# EAGLE library part MIC2182 (library MAX9812)
MICREL's MIC2182
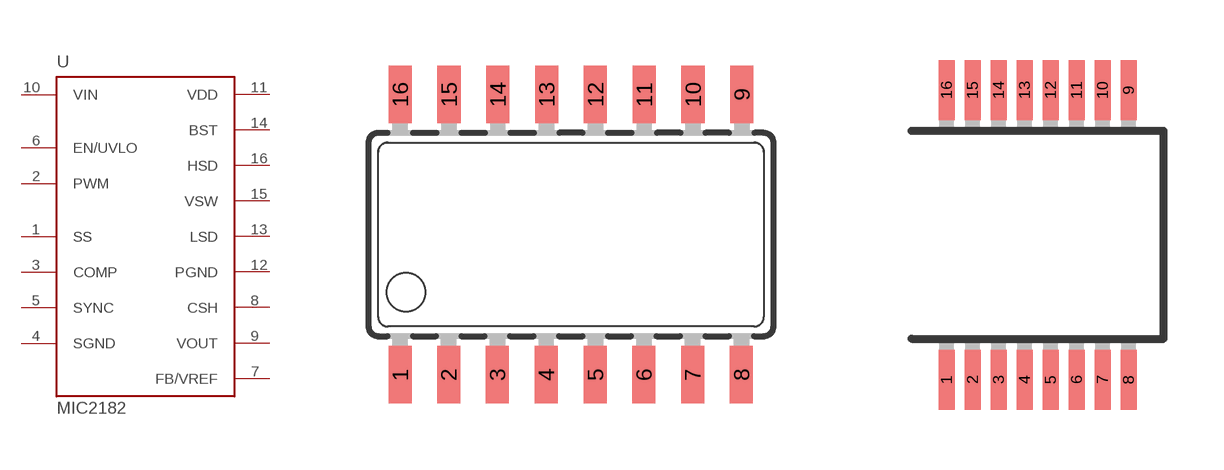
[diagram p61: symbol with the pads of SOP16; footprints SOP16, SSOP16]

Designator prefix U

## MIC2182SOP16  [SOP16]
1  SS  in
2  PWM  in
3  COMP  out
4  SGND  pwr
5  SYNC  in
6  EN/UVLO  in
7  FB/VREF
8  CSH  in
9  VOUT  in
10  VIN  pwr
11  VDD  out
12  PGND  pwr
13  LSD  out
14  BST  in
15  VSW  out
16  HSD  out

## MIC2182SSOP16  [SSOP16]
Pads as for SOP16

## Footprint SOP16 (pad centres in mm)
Small Outline Package
smd 0.6 x 1.5: 1 -4.445,-3.65; 2 -3.185,-3.65; 3 -1.915,-3.65; 4 -0.645,-3.65; 5 0.635,-3.65; 6 1.895,-3.65; 7 3.165,-3.65; 8 4.435,-3.65; 9 4.445,3.65; 10 3.175,3.65; 11 1.905,3.65; 12 0.635,3.65; 13 -0.635,3.65; 14 -1.905,3.65; 15 -3.175,3.65; 16 -4.445,3.65

## Footprint SSOP16 (pad centres in mm)
Shrink Small Outline Package package type SS
smd 0.4 x 1.5: 1 -2.275,-3.625; 2 -1.625,-3.625; 3 -0.975,-3.625; 4 -0.325,-3.625; 5 0.325,-3.625; 6 0.975,-3.625; 7 1.625,-3.625; 8 2.275,-3.625; 9 2.275,3.625; 10 1.625,3.625; 11 0.975,3.625; 12 0.325,3.625; 13 -0.325,3.625; 14 -0.975,3.625; 15 -1.625,3.625; 16 -2.275,3.625